# EAGLE library part LMR14206 (library Synapseware-transistors)
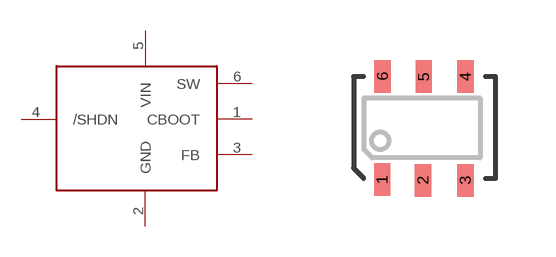
[diagram p32: symbol with the pads of TSOT-6; footprint TSOT-6]

Designator prefix -

## LMR14206TSOT-6  [TSOT-6]
1  CBOOT
2  GND
3  FB
4  /SHDN
5  VIN
6  SW

## Footprint TSOT-6 (pad centres in mm)
TSOT-6
smd 0.406 x 0.813: 1 -1.06,-1.3; 2 -0.04,-1.32; 3 1.02,-1.32; 4 1.02,1.27; 5 -0.02,1.27; 6 -1.05,1.28